# Altium schematic symbol library коммутационные эл-ты.SchLib: 13 symbols
Pins are listed as number, name and electrical type; pins without a type are passive.

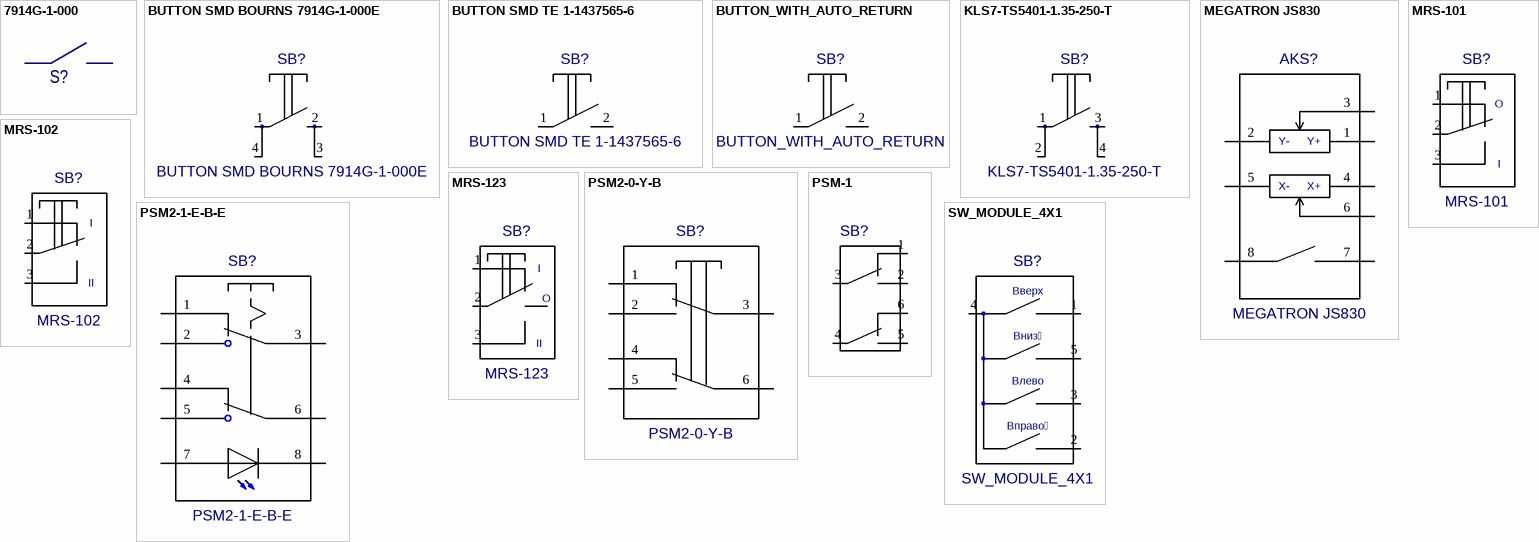
[diagram p0: symbols 7914G-1-000 to SW_MODULE_4X1]

## 7914G-1-000
designator S?  (value not drawn)
Manufacturer: bOURNS; Cell: *; ManufacturerPartNmber: 7914G-1-000; Value: *; Tolerance: *; Current: *; Voltage: *; Power: *
footprint 7914G-1-000
pins: 1, 2

## BUTTON SMD BOURNS 7914G-1-000E
designator SB?
Value: *
footprint BUTTON SMD BOURNS 7914G
pins: 1, 2, 3, 4

## BUTTON SMD TE 1-1437565-6
designator SB?
Value: *
pins: 1, 2

## BUTTON_WITH_AUTO_RETURN
designator SB?
Value: *
pins: 1, 2

## KLS7-TS5401-1.35-250-T
designator SB?
Value: *
footprint KLS7-TS5401
pins: 1, 2, 3, 4

## MEGATRON JS830
designator AKS?
Value: *
pins: 1, 2, 3, 4, 5, 6, 7, 8
text: Y-; Y+; X-; X+

## MRS-101
designator SB?
Value: *
pins: 1, 2, 3
text: O; I

## MRS-102
designator SB?
Value: *
pins: 1, 2, 3
text: I; II

## MRS-123
designator SB?
Value: *
pins: 1, 2, 3
text: I; O; II

## PSM2-0-Y-B
designator SB?
Value: {Value}
pins: 1, 2, 3, 4, 5, 6

## PSM2-1-E-B-E
designator SB?
Value: {Value}
pins: 1, 2, 3, 4, 5, 6, 7 A, 8 K

## PSM-1
designator SB?  (value not drawn)
Value: *
footprint PSM-1
pins: 1 NC, 2 NO, 3 COM, 4 COM, 5 NO, 6 NC

## SW_MODULE_4X1
designator SB?
Value: {Value}
pins: 1, 2, 3, 4, 5
text: Вверх; Вниз; Влево; Вправо